# Altium footprint library Flex_Bridge_SW.PcbLib: 2 footprints
Each footprint in its own frame and in the unit in brackets; x right, y up, seen from the top. Pads: shape width x height; smd on the part's side, far side on the other; paste and mask are expansions set on the pad; w line width, h text height; cw(c..) or ccw(c..) is an arc to the next point about the centre after c.
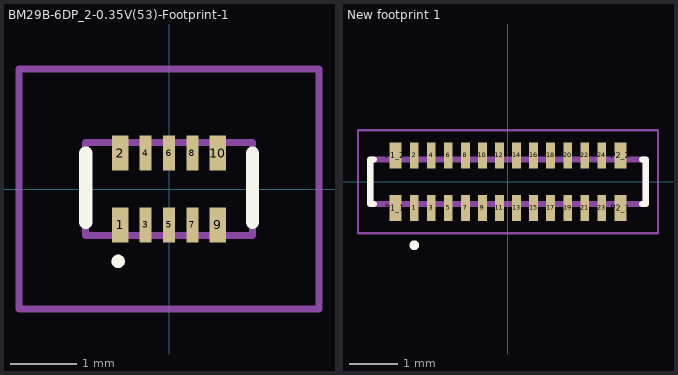
[diagram p0: the footprints below, top view; thin cyan lines are the x and y axes]

## BM29B-6DP_2-0.35V(53)-Footprint-1 [mm]
pads (10):
  rect 0.25x0.53 smd: 1(-0.735,-0.54) 2(-0.735,0.54) 9(0.735,-0.54) 10(0.735,0.54)
  rect 0.18x0.53 smd: 3(-0.35,-0.54) 4(-0.35,0.54) 5(0,-0.54) 6(0,0.54) 7(0.35,-0.54) 8(0.35,0.54)
Top Overlay:
  lines w0.1: -0.764,-1.137 ccw(c-0.764,-1.087) -0.764,-1.037 ccw(c-0.764,-1.087) -0.764,-1.137
  lines w0.2: -1.25,-0.5 -1.25,0.54 ; 1.255,-0.5 1.255,0.54
Top Designator:
  text ".Designator" at -1.25,-0.083 h0.25
Top Assembly:
  lines w0.1: -1.255,-0.7 1.255,-0.7 1.255,0.7 -1.255,0.7 -1.255,-0.7 ; -0.764,-1.137 ccw(c-0.764,-1.087) -0.764,-1.037 ccw(c-0.764,-1.087) -0.764,-1.137
Top Courtyard:
  lines w0.1: -2.255,-1.805 2.255,-1.805 2.255,1.805 -2.255,1.805 -2.255,-1.805
3D body "BM29B-6DP_2-0.35V_53_.stp": height 0.51, standoff 0, extent -1.255,-0.787 1.255,0.787

## New footprint 1 [mm]
pads (28):
  rect 0.18x0.53 smd paste-1 mask+0.05: 1(-1.925,-0.54) 2(-1.925,0.54) 3(-1.575,-0.54) 4(-1.575,0.54) 5(-1.225,-0.54) 6(-1.225,0.54) 7(-0.875,-0.54) 8(-0.875,0.54) 9(-0.525,-0.54) 10(-0.525,0.54) 11(-0.175,-0.54) 12(-0.175,0.54) 13(0.175,-0.54) 14(0.175,0.54) 15(0.525,-0.54) 16(0.525,0.54) 17(0.875,-0.54) 18(0.875,0.54) 19(1.225,-0.54) 20(1.225,0.54) 21(1.575,-0.54) 22(1.575,0.54) 23(1.925,-0.54) 24(1.925,0.54)
  rect 0.25x0.53 smd paste-1 mask+0.05: P1_1(-2.31,-0.54) P1_2(-2.31,0.54) P2_1(2.31,-0.54) P2_2(2.31,0.54)
Top Overlay:
  circle w0.1: c-1.925,-1.305 r0.05
  lines w0.127: -2.755,-0.455 -2.83,-0.455 -2.83,0.455 -2.755,0.455 ; 2.755,-0.455 2.83,-0.455 2.83,0.455 2.755,0.455
Top Paste:
  region: 2.015,0.381 1.835,0.381 1.835,0.805 2.015,0.805
  region: 2.015,-0.805 1.835,-0.805 1.835,-0.381 2.015,-0.381
  region: 1.665,0.381 1.485,0.381 1.485,0.805 1.665,0.805
  region: 1.665,-0.805 1.485,-0.805 1.485,-0.381 1.665,-0.381
  region: 1.315,0.381 1.135,0.381 1.135,0.805 1.315,0.805
  region: 1.315,-0.805 1.135,-0.805 1.135,-0.381 1.315,-0.381
  region: 0.965,0.381 0.785,0.381 0.785,0.805 0.965,0.805
  region: 0.965,-0.805 0.785,-0.805 0.785,-0.381 0.965,-0.381
  region: 0.615,0.381 0.435,0.381 0.435,0.805 0.615,0.805
  region: 0.615,-0.805 0.435,-0.805 0.435,-0.381 0.615,-0.381
  region: 0.265,0.381 0.085,0.381 0.085,0.805 0.265,0.805
  region: 0.265,-0.805 0.085,-0.805 0.085,-0.381 0.265,-0.381
  region: -0.085,0.381 -0.265,0.381 -0.265,0.805 -0.085,0.805
  region: -0.085,-0.805 -0.265,-0.805 -0.265,-0.381 -0.085,-0.381
  region: -0.435,0.381 -0.615,0.381 -0.615,0.805 -0.435,0.805
  region: -0.435,-0.805 -0.615,-0.805 -0.615,-0.381 -0.435,-0.381
  region: -0.785,0.381 -0.965,0.381 -0.965,0.805 -0.785,0.805
  region: -0.785,-0.805 -0.965,-0.805 -0.965,-0.381 -0.785,-0.381
  region: -1.135,0.381 -1.315,0.381 -1.315,0.805 -1.135,0.805
  region: -1.135,-0.805 -1.315,-0.805 -1.315,-0.381 -1.135,-0.381
  region: -1.485,0.381 -1.665,0.381 -1.665,0.805 -1.485,0.805
  region: -1.485,-0.805 -1.665,-0.805 -1.665,-0.381 -1.485,-0.381
  region: -1.835,0.381 -2.015,0.381 -2.015,0.805 -1.835,0.805
  region: -1.835,-0.805 -2.015,-0.805 -2.015,-0.381 -1.835,-0.381
  region: 2.435,0.381 2.185,0.381 2.185,0.805 2.435,0.805
  region: 2.435,-0.805 2.185,-0.805 2.185,-0.381 2.435,-0.381
  region: -2.185,0.381 -2.435,0.381 -2.435,0.805 -2.185,0.805
  region: -2.185,-0.805 -2.435,-0.805 -2.435,-0.381 -2.185,-0.381
Top Designator:
  text ".Designator" at -1.25,-0.246 h0.25
Top Assembly:
  lines w0.127: -2.83,-0.455 2.83,-0.455 2.83,0.455 -2.83,0.455 -2.83,-0.455
Top Courtyard:
  lines w0.05: -3.08,-1.055 -3.08,1.055 3.08,1.055 3.08,-1.055 -3.08,-1.055
3D body "2-0.35V-51---3DModel-STEP-1(1).STEP": height 0.4, standoff -0.01, extent -2.83,-0.686 2.83,0.714